# EAGLE library part DPDT_TH (library CYCFI_switch)
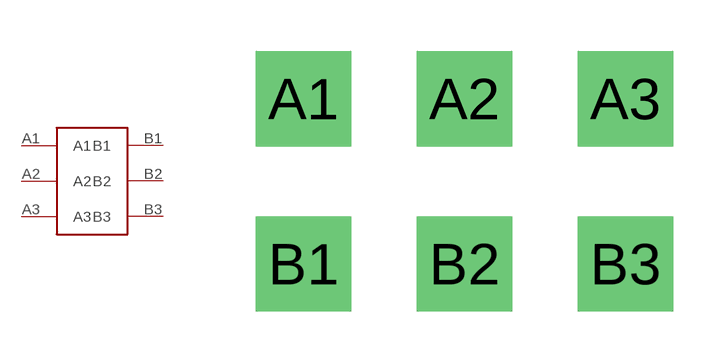
[diagram p0: symbol with the pads of DPDT_A201SYCB04; footprint DPDT_A201SYCB04]

Designator prefix -

## DPDT_TH  [DPDT_A201SYCB04]
A1  A1
A2  A2
A3  A3
B1  B1
B2  B2
B3  B3

## Footprint DPDT_A201SYCB04 (pad centres in mm)
drill 1.854 square: A1 -4.699,2.413; A2 0,2.413; A3 4.699,2.413; B1 -4.699,-2.413; B2 0,-2.413; B3 4.699,-2.413